# Altium footprint library LegacyDO.PcbLib: 67 footprints (part 5 of 5)
Each footprint in its own frame and in the unit in brackets; x right, y up, seen from the top. Pads: shape width x height; smd on the part's side, far side on the other; paste and mask are expansions set on the pad; w line width, h text height; cw(c..) or ccw(c..) is an arc to the next point about the centre after c.
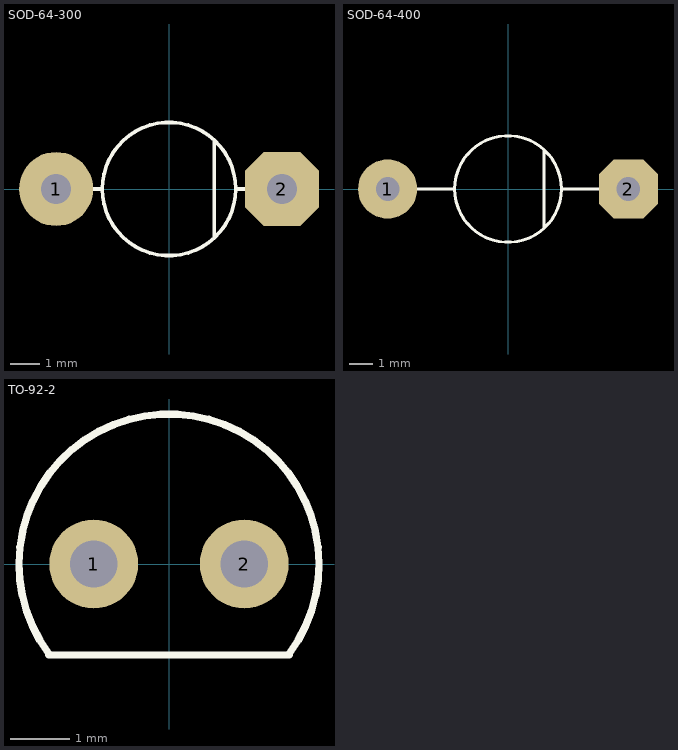
[diagram p4: the footprints below, top view; thin cyan lines are the x and y axes]

## SOD-64-300 [mm]
pads (2):
  round 2.5 hole 1: 1(-3.81,0)
  oct 2.5x2.5 hole 1: 2(3.81,0)
Top Overlay:
  circle w0.125: c0,0 r2.25
  lines w0.125: -3.048,0 -2.25,0 ; 1.524,-1.651 1.524,1.651 ; 2.25,0 3.048,0
3D body "SOD-64 300.STEP": height 4.79, standoff -2.46, extent -4.485,-2.25 4.485,2.25

## SOD-64-400 [mm]
pads (2):
  round 2.5 hole 1: 1(-5.08,0)
  oct 2.5x2.5 hole 1: 2(5.08,0)
Top Overlay:
  circle w0.125: c0,0 r2.25
  lines w0.125: -4.318,0 -2.25,0 ; 1.524,-1.651 1.524,1.651 ; 2.25,0 4.318,0
3D body "SOD-64 400.STEP": height 4.79, standoff -2.46, extent -5.755,-2.25 5.755,2.25

## TO-92-2 [mm]
pads (2):
  round 1.5 hole 0.8 paste+0 mask+0: 1(-1.27,0)
  round 1.5 hole 0.8 paste+0 mask+0.127: 2(1.27,0)
Top Overlay:
  lines w0.125: -2.032,-1.535 2.032,-1.535 ; -2.024,-1.518 cw(c0,0) 2.024,-1.518
3D body "TO92-2.STEP": height 8, standoff -3, extent -2.4,-1.535 2.4,2.395